# Altium footprint library FTS31XS-U.PcbLib: 1 footprints
Each footprint in its own frame and in the unit in brackets; x right, y up, seen from the top. Pads: shape width x height; smd on the part's side, far side on the other; paste and mask are expansions set on the pad; w line width, h text height; cw(c..) or ccw(c..) is an arc to the next point about the centre after c.
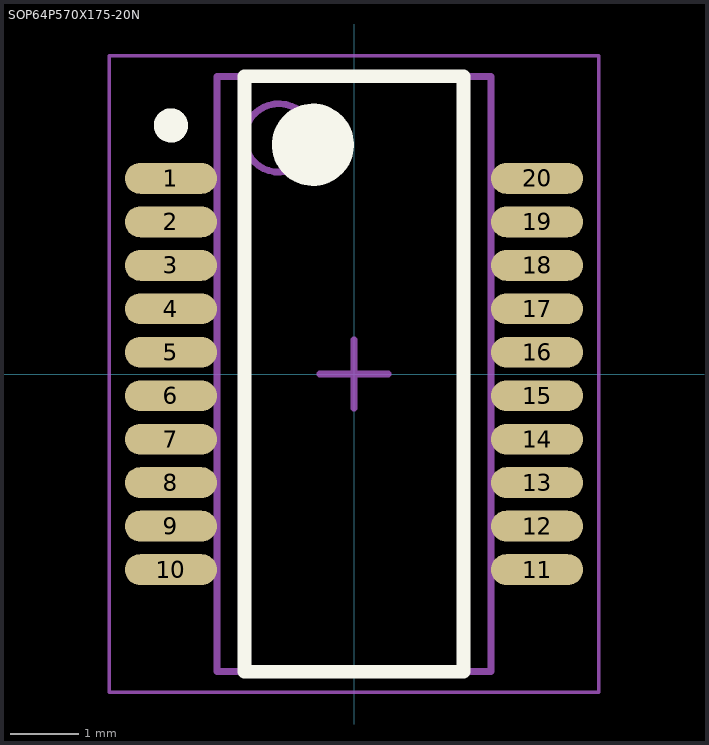
[diagram p0: the footprint, top view; thin cyan lines are the x and y axes]

## SOP64P570X175-20N [mm] "SOP, 20-Leads, Body 8.65x3.90mm, Pitch 0.64mm, IPC Medium Density"
height 1.76
pads (20):
  oval 1.35x0.45 smd: 1(-2.675,2.857) 2(-2.675,2.222) 3(-2.675,1.587) 4(-2.675,0.953) 5(-2.675,0.318) 6(-2.675,-0.318) 7(-2.675,-0.953) 8(-2.675,-1.587) 9(-2.675,-2.222) 10(-2.675,-2.857) 11(2.675,-2.857) 12(2.675,-2.222) 13(2.675,-1.587) 14(2.675,-0.953) 15(2.675,-0.318) 16(2.675,0.318) 17(2.675,0.953) 18(2.675,1.587) 19(2.675,2.222) 20(2.675,2.857)
Top Overlay:
  circle w0.6: c-0.6,3.35 r0.3
  circle w0.25: c-2.675,3.632 r0.125
  lines w0.2: -1.6,-4.35 1.6,-4.35 1.6,4.35 -1.6,4.35 -1.6,-4.35
Mechanical 13:
  circle w0.1: c-1.1,3.45 r0.5
  lines w0.1: -2,-4.35 2,-4.35 2,4.35 -2,4.35 -2,-4.35
Mechanical 15:
  lines w0.05: -3.575,-4.65 3.575,-4.65 3.575,4.65 -3.575,4.65 -3.575,-4.65
  lines w0.1: -0.5,0 0.5,0 ; 0,-0.5 0,0.5
3D body: height 1.76, standoff 0.1, extent -2,-4.35 2,4.35